# Altium footprint library SparkFun-Sensors.PCBLIB: 67 footprints (part 4 of 5)
Each footprint in its own frame and in the unit in brackets; x right, y up, seen from the top. Pads: shape width x height; smd on the part's side, far side on the other; paste and mask are expansions set on the pad; w line width, h text height; cw(c..) or ccw(c..) is an arc to the next point about the centre after c.
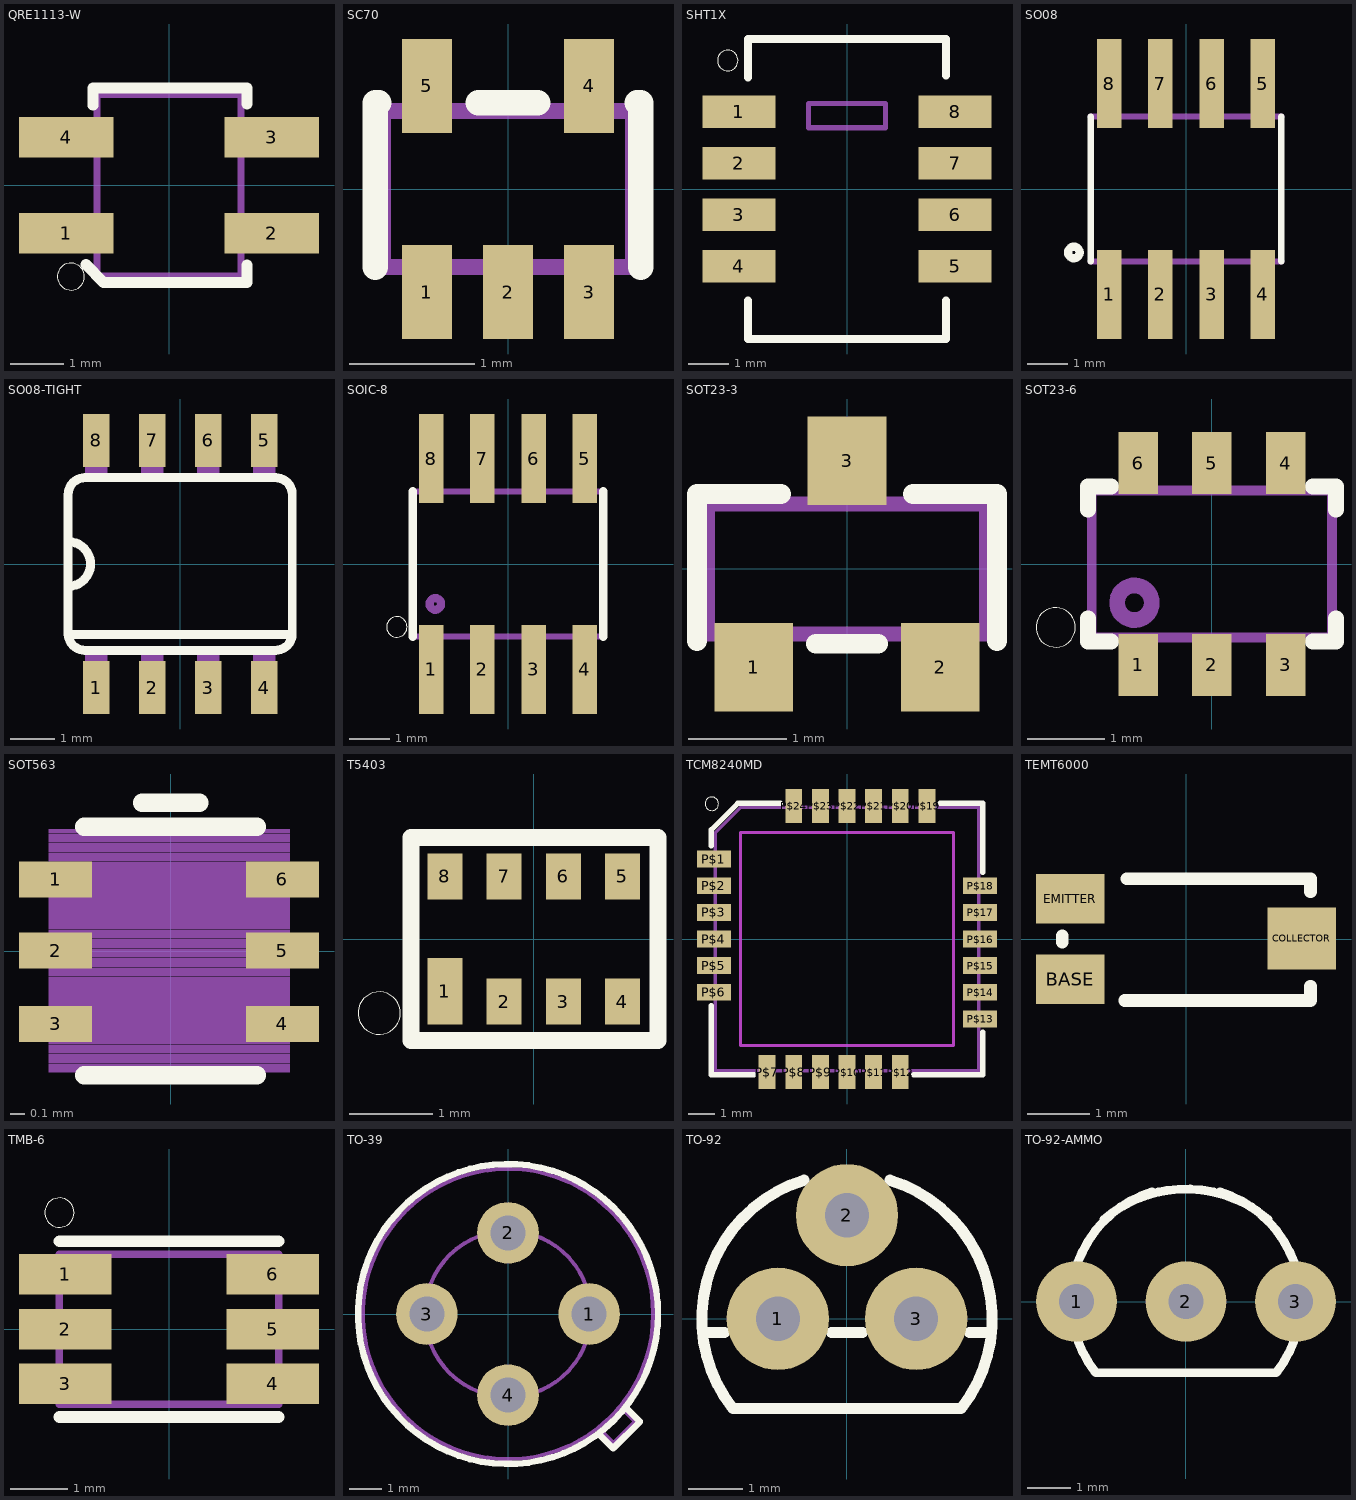
[diagram p3: the footprints below, top view; thin cyan lines are the x and y axes]

## QRE1113-W [mil]
pads (4):
  rect 70x30 smd: 1(-75.87,-35.43) 2(75.87,-35.43) 3(75.87,35.43) 4(-75.87,35.43)
Top Overlay:
  circle w0: c-72.5,-67.5 r10
  lines w8: -61.44,-58.56 -48.31,-71.93 57.62,-71.93 57.62,-59.06 ; -56.18,59.06 -56.18,71.93 57.62,71.93 57.62,60.12
Mechanical 16:
  lines w5: -53.15,-66.93 -53.15,66.93 53.15,66.93 53.15,-66.93 -53.15,-66.93

## SC70 [mm]
pads (5):
  rect 0.4x0.75 smd: 1(-0.65,-0.825) 2(0,-0.825) 3(0.65,-0.825) 4(0.65,0.825) 5(-0.65,0.825)
Top Overlay:
  lines w0.203: -1.063,-0.625 -1.063,0.689 -1.032,0.689 ; -0.238,0.689 0.238,0.689 ; 1.032,0.689 1.063,0.689 1.063,-0.625
Top Paste:
  rectangle: -0.85,0.45 -0.45,1.2
  rectangle: 0.45,0.45 0.85,1.2
  rectangle: -0.838,-1.168 -0.508,-0.483
  rectangle: -0.165,-1.168 0.165,-0.483
  rectangle: 0.508,-1.168 0.838,-0.483
Mechanical 16:
  lines w0.127: -1,-0.625 -1,0.625 1,0.625 1,-0.625 -1,-0.625

## SHT1X [mil]
pads (8):
  rect 70.87x31.5 smd: 1(-105,75) 2(-105,25) 3(-105,-25) 4(-105,-75) 5(105,-75) 6(105,-25) 7(105,25) 8(105,75)
Top Overlay:
  circle w0: c-115.79,124.8 r10
  lines w8: -96.06,-108.27 -96.06,-145.67 96.06,-145.67 96.06,-108.27 ; -96.06,108.27 -96.06,145.67 96.06,145.67 96.06,110.24
Mechanical 16:
  lines w5: -37.4,59.45 37.4,59.45 37.4,83.07 -37.4,83.07 -37.4,59.45

## SO08 [mil]
pads (8):
  rect 24x87 smd: 1(-75,-103) 2(-25,-103) 3(25,-103) 4(75,-103) 5(75,103) 6(25,103) 7(-25,103) 8(-75,103)
Top Overlay:
  circle w8: c-109.5,-62 r5.65
  lines w6: -92.99,-70.98 -92.99,70.98 ; 92.99,-70.98 92.99,70.98
Mechanical 16:
  rectangle: -82,-113 -68,-73
  rectangle: -32,-113 -18,-73
  rectangle: 18,-113 32,-73
  rectangle: 68,-113 82,-73
  rectangle: -82,73 -68,113
  rectangle: -32,73 -18,113
  rectangle: 18,73 32,113
  rectangle: 68,73 82,113
  lines w6: -92.99,-70.98 92.99,-70.98 ; -92.99,70.98 92.99,70.98

## SO08-TIGHT [mm]
pads (8):
  rect 0.6x1.2 smd: 1(-1.905,-2.8) 2(-0.635,-2.8) 3(0.635,-2.8) 4(1.905,-2.8) 5(1.905,2.8) 6(0.635,2.8) 7(-0.635,2.8) 8(-1.905,2.8)
Top Overlay:
  lines w0.203: -2.54,-1.6 2.54,-1.6 ; -2.54,-0.508 -2.54,0.508 ; -2.54,-0.508 -2.54,-1.575 ccw(c-2.159,-1.575) -2.159,-1.956 2.159,-1.956 ccw(c2.159,-1.575) 2.54,-1.575 2.54,1.575 ccw(c2.159,1.575) 2.159,1.956 -2.159,1.956 ccw(c-2.159,1.575) -2.54,1.575 -2.54,0.508 ; -2.54,-0.508 ccw(c-2.54,0) -2.54,0.508
Mechanical 16:
  rectangle: 1.651,1.956 2.159,3.099
  rectangle: -2.159,-3.099 -1.651,-1.956
  rectangle: -0.889,-3.099 -0.381,-1.956
  rectangle: 0.381,-3.073 0.889,-1.93
  rectangle: 1.651,-3.099 2.159,-1.956
  rectangle: 0.381,1.956 0.889,3.099
  rectangle: -0.889,1.956 -0.381,3.099
  rectangle: -2.159,1.956 -1.651,3.099

## SOIC-8 [mil]
pads (8):
  rect 24x87 smd: 1(-75,-103) 2(-25,-103) 3(25,-103) 4(75,-103) 5(75,103) 6(25,103) 7(-25,103) 8(-75,103)
Top Overlay:
  circle w0: c-108.5,-61.5 r10
  lines w8: -92.99,-70.98 -92.99,70.98 ; 92.99,-70.98 92.99,70.98
Mechanical 16:
  circle w8: c-71,-39 r5.65
  rectangle: -82,-113 -68,-73
  rectangle: -32,-113 -18,-73
  rectangle: 18,-113 32,-73
  rectangle: 68,-113 82,-73
  rectangle: -82,73 -68,113
  rectangle: -32,73 -18,113
  rectangle: 18,73 32,113
  rectangle: 68,73 82,113
  lines w6: -92.99,-70.98 92.99,-70.98 ; -92.99,70.98 92.99,70.98

## SOT23-3 [mil]
pads (3):
  rect 31.5x35.43 smd: 1(-37.4,-39.37) 2(37.4,-39.37) 3(0,43.31)
Top Overlay:
  lines w8: -60.12,-28.94 -60.12,30.06 -26.5,30.06 ; -12.5,-30 12.5,-30 ; 26.5,30.06 60.12,30.06 60.12,-28.94
Mechanical 16:
  lines w6: -56,-26 56,-26 56,26 -56,26 -56,-26

## SOT23-6 [mil]
pads (6):
  rect 20.08x31.5 smd: 1(-37.4,-51.18) 2(0,-51.18) 3(37.4,-51.18) 4(37.4,51.18) 5(0,51.18) 6(-37.4,51.18)
Top Overlay:
  circle w0: c-79.37,-32.19 r10
  lines w8: -62.99,-27.56 -62.99,-39.37 -51.18,-39.37 ; -62.99,27.56 -62.99,39.37 -51.18,39.37 ; 51.18,-39.37 62.99,-39.37 62.99,-27.56 ; 51.18,39.37 62.99,39.37 62.99,27.56
Mechanical 16:
  circle w8: c-39.37,-19.69 r8.8
  lines w5: -61.02,-37.4 -61.02,37.4 61.02,37.4 61.02,-37.4 -61.02,-37.4

## SOT563 [mil]
pads (6):
  rect 20x9.8 smd: 1(-31.5,19.61) 2(-31.5,0.13) 3(-31.5,-19.92) 4(30.57,-19.92) 5(30.57,0.13) 6(30.57,19.61)
Top Overlay:
  lines w5: -23.62,-34 23.62,-34 ; -23.62,34 23.62,34 ; -7.87,40.62 7.87,40.62
Mechanical 14:
  lines w0: -33.02,5.46 31.98,5.46
Mech84:
  drawing of 504 lines, arcs and shapes, not listed
Mech85:
  drawing of 760 lines, arcs and shapes, not listed

## T5403 [mil]
pads (8):
  rect 16.54x31.5 smd: 1(-41.93,-24.61)
  rect 16.54x21.65 smd: 2(-13.98,-29.53) 3(13.98,-29.53) 4(41.93,-29.53) 5(41.93,29.53) 6(13.98,29.53) 7(-13.98,29.53) 8(-41.93,29.53)
Top Overlay:
  circle w0: c-73,-35 r10
  lines w8: -58,-48 -58,48 58.72,48 58.72,-48 -58,-48

## TCM8240MD [mm]
pads (24):
  rect 1.27x0.635 smd: P$1(-5,3) P$2(-5,2) P$3(-5,1) P$4(-5,0) P$5(-5,-1) P$6(-5,-2) P$13(5,-3) P$14(5,-2) P$15(5,-1) P$16(5,0) P$17(5,1) P$18(5,2)
  rect 0.635x1.27 smd: P$7(-3,-5) P$8(-2,-5) P$9(-1,-5) P$10(0,-5) P$11(1,-5) P$12(2,-5) P$19(3,5) P$20(2,5) P$21(1,5) P$22(0,5) P$23(-1,5) P$24(-2,5)
Top Overlay:
  circle w0: c-5.08,5.08 r0.254
  lines w0.203: -5.1,-2.5 -5.1,-5.1 -3.5,-5.1 ; -5.1,3.5 -5.1,4.1 -4.1,5.1 -2.5,5.1 ; 2.5,-5.1 5.1,-5.1 5.1,-3.5 ; 3.5,5.1 5.1,5.1 5.1,2.5
Mechanical 8 keep-out:
  lines w0.127: -4,-4 4,-4 4,4 -4,4 -4,-4
Mechanical 16:
  lines w0.127: -4.95,-4.95 4.95,-4.95 4.95,4.95 -4,4.95 -4.95,4 -4.95,-4.95
Mechanical 27:
  lines w0.127: -4,-4 4,-4 4,4 -4,4 -4,-4

## TEMT6000 [mm]
pads (3):
  rect 1.1x0.8 smd: BASE(-1.87,-0.65) EMITTER(-1.87,0.65)
  rect 1.1x1 smd: COLLECTOR(1.86,0.01)
Top Overlay:
  lines w0.203: -2,-0.05 -2,0.05 ; -0.99,-0.99 2,-0.99 2,-0.76 ; -0.96,0.97 2,0.97 2,0.76

## TMB-6 [mm]
pads (6):
  rect 1.6x0.7 smd: 1(-1.8,0.95) 2(-1.8,0) 3(-1.8,-0.95) 4(1.8,-0.95) 5(1.8,0) 6(1.8,0.95)
Top Overlay:
  circle w0: c-1.9,2.021 r0.254
  lines w0.203: -1.9,-1.524 1.9,-1.524 ; -1.9,1.524 1.9,1.524
Mechanical 16:
  lines w0.127: -1.9,-1.3 -1.9,1.3 1.9,1.3 1.9,-1.3 -1.9,-1.3

## TO-39 [mil]
pads (4):
  round 76 hole 43.31: 1(100,0) 2(0,100) 3(-100,0) 4(0,-100)
Top Overlay:
  circle w8: c0,0 r185
  lines w8: 112.16,-148.15 129.87,-165.86 ; 130.26,-165.25 162.7,-132.8 ; 145.61,-115.71 162.31,-132.41
Bottom Solder:
  circle w0: c-100,0 r40
  circle w0: c100,0 r40
  circle w0: c0,-100 r40
  circle w0: c0,100 r40
Mechanical 16:
  circle w5: c0,0 r102.36
  circle w5: c0,0 r179.13
  lines w5: 112.16,-141.15 128.87,-157.86 ; 130.26,-159.25 156.7,-132.8 ; 138.61,-114.71 155.31,-131.41

## TO-92 [mil]
pads (3):
  round 74 hole 32: 1(-50,0) 2(0,75) 3(50,0)
Top Overlay:
  lines w8: -104.52,-10 -88.73,-10 ; -30.96,100.33 ccw(c0,0) -82.46,-65 82.46,-65 ccw(c0,0) 30.96,100.33 ; -11.27,-10 11.27,-10 ; 88.73,-10 104.52,-10

## TO-92-AMMO [mil]
pads (3):
  round 74 hole 32: 1(-100,0) 2(0,0) 3(100,0)
Top Overlay:
  lines w8: -75,75 cw(c0,-12.5) 25,100 ; -30.96,100.33 ccw(c0,0) -82.46,-65 82.46,-65 ccw(c0,0) 30.96,100.33 ; -25,100 cw(c0,-12.5) 25,100 ; 75,75 ccw(c0,-12.5) 25,100